# Altium schematic symbol library RCWE251210L0JTEA.SchLib: 2 symbols
Pins are listed as number, name and electrical type; pins without a type are passive.

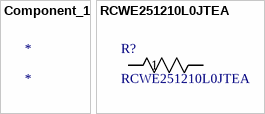
[diagram p0: symbols Component_1 to RCWE251210L0JTEA]

## Component_1
designator *

## RCWE251210L0JTEA
designator R?
No Description Available; Mfr_Name: Vishay; Copyright: Copyright (C) 2022 Ultra Librarian. All rights reserved.; Manufacturer_Part_Number: RCWE251210L0JTEA; RefDes: RefDes; Type: DEV
footprint RES_RCWE2512_.01-.03ohm_VIS
pins: 1, 2